# Altium footprint library DIP-Q  0607.PCBlib: 66 footprints (part 5 of 5)
Each footprint in its own frame and in the unit in brackets; x right, y up, seen from the top. Pads: shape width x height; smd on the part's side, far side on the other; paste and mask are expansions set on the pad; w line width, h text height; cw(c..) or ccw(c..) is an arc to the next point about the centre after c.
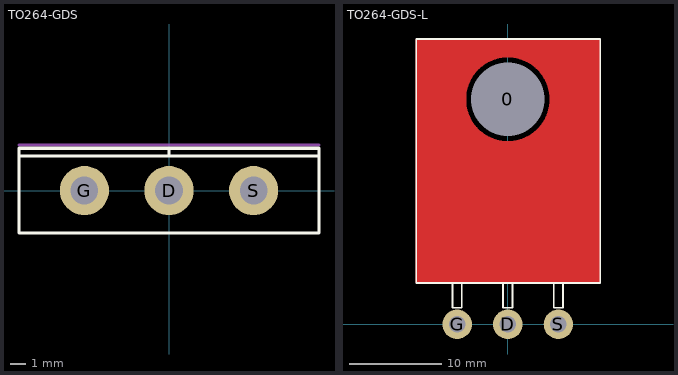
[diagram p4: the footprints below, top view; thin cyan lines are the x and y axes]

## TO264-GDS [mm]
pads (3):
  round 3.2 hole 1.8: D(0,0) G(-5.5,0) S(5.5,0)
Top Overlay:
  lines w0.2: -9.75,2.25 9.75,2.25 ; 0,2.25 0,2.75 ; -9.75,-2.75 9.75,-2.75 9.75,2.75 -9.75,2.75 -9.75,-2.75
Mechanical 7:
  lines w0.2: -9.75,2.95 9.75,2.95

## TO264-GDS-L [mm]
pads (4):
  round 7 hole 8 unplated: 0(0,24.45)
  round 3.2 hole 1.8: D(0,0) G(-5.5,0) S(5.5,0)
Top Layer:
  circle w1.8: c0,24.45 r5.441
  region: -4.5,31 -10,31 -10,19.5 -4.5,19.5
  rectangle: 4.6,19.75 10,31
  rectangle: -10,4.5 10,19.75
  lines w1: -5.4,30.5 4.8,30.5
  lines w1.5: -5.25,28.25 -3.75,29.75 4,29.75 5.75,28 ; -4.85,20.25 -4.1,19.5 ; 4.1,19.5 4.85,20.25
Top Overlay:
  lines w0.2: -6,4.5 -6,1.8 -5,1.8 -5,4.5 ; -0.5,4.5 -0.5,1.8 0.5,1.8 0.5,4.5 ; 5,4.5 5,1.8 6,1.8 6,4.5 ; -9.95,4.5 -9.95,31 10.05,31 10.05,4.5 -9.95,4.5
Drill Drawing:
  circle w0.2: c0,24.45 r4
  text "NPTH" at -2,18.5 h1.2